# Altium footprint library QFN57P50_800X800X85L40X24T590RN.PcbLib: 1 footprints
Each footprint in its own frame and in the unit in brackets; x right, y up, seen from the top. Pads: shape width x height; smd on the part's side, far side on the other; paste and mask are expansions set on the pad; w line width, h text height; cw(c..) or ccw(c..) is an arc to the next point about the centre after c.
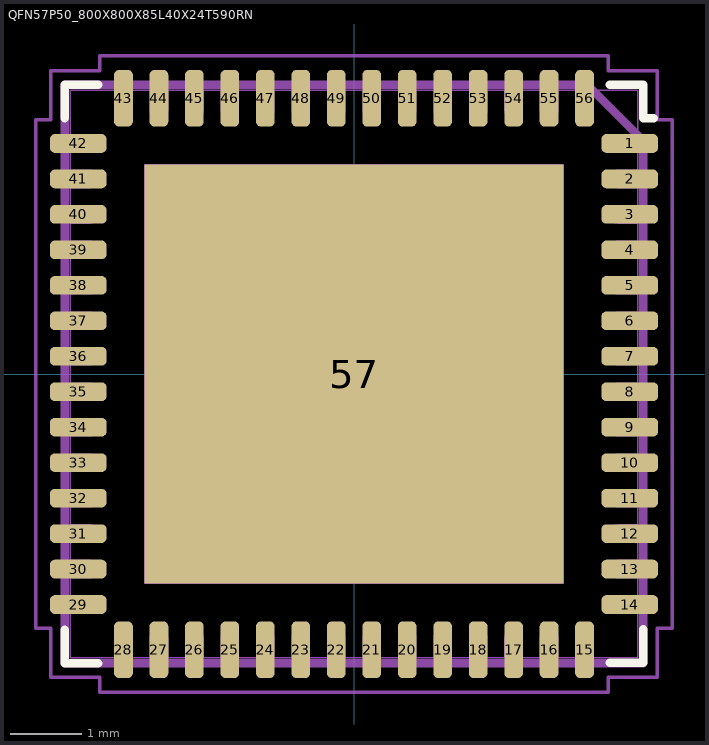
[diagram p0: the footprint, top view; thin cyan lines are the x and y axes]

## QFN57P50_800X800X85L40X24T590RN [mm] "Quad Flat No-Lead (QFN) with Thermal Tab, 0.50 mm pitch;  square, 14 pin X 14 pin, 8.00 mm L X 8.00 mm W X 1.00 mm H Body"
height 1
pads (57):
  rrect50% 0.796x0.264 smd: 1(3.887,3.25) 2(3.887,2.75) 3(3.887,2.25) 4(3.887,1.75) 5(3.887,1.25) 6(3.887,0.75) 7(3.887,0.25) 8(3.887,-0.25) 9(3.887,-0.75) 10(3.887,-1.25) 11(3.887,-1.75) 12(3.887,-2.25) 13(3.887,-2.75) 14(3.887,-3.25) 29(-3.887,-3.25) 30(-3.887,-2.75) 31(-3.887,-2.25) 32(-3.887,-1.75) 33(-3.887,-1.25) 34(-3.887,-0.75) 35(-3.887,-0.25) 36(-3.887,0.25) 37(-3.887,0.75) 38(-3.887,1.25) 39(-3.887,1.75) 40(-3.887,2.25) 41(-3.887,2.75) 42(-3.887,3.25)
  rrect50% 0.264x0.796 smd: 15(3.25,-3.887) 16(2.75,-3.887) 17(2.25,-3.887) 18(1.75,-3.887) 19(1.25,-3.887) 20(0.75,-3.887) 21(0.25,-3.887) 22(-0.25,-3.887) 23(-0.75,-3.887) 24(-1.25,-3.887) 25(-1.75,-3.887) 26(-2.25,-3.887) 27(-2.75,-3.887) 28(-3.25,-3.887) 43(-3.25,3.887) 44(-2.75,3.887) 45(-2.25,3.887) 46(-1.75,3.887) 47(-1.25,3.887) 48(-0.75,3.887) 49(-0.25,3.887) 50(0.25,3.887) 51(0.75,3.887) 52(1.25,3.887) 53(1.75,3.887) 54(2.25,3.887) 55(2.75,3.887) 56(3.25,3.887)
  rect 5.9x5.9 smd paste-5.9: 57(0,0)
Top Overlay:
  lines w0.12: -4.075,-3.602 -4.075,-4.075 -3.602,-4.075 ; -4.075,3.602 -4.075,4.075 -3.602,4.075 ; 3.602,-4.07 4.075,-4.07 4.075,-3.597 ; 3.602,4.075 4.075,4.075 4.075,3.602 4.225,3.602
Top Paste:
  region: -1.272,-1.272 -1.272,-2.662 -2.662,-2.662 -2.662,-1.272
  region: 0.696,-1.272 0.696,-2.662 -0.696,-2.662 -0.696,-1.272
  region: 2.662,-1.272 2.662,-2.662 1.272,-2.662 1.272,-1.272
  region: -1.272,0.696 -1.272,-0.696 -2.662,-0.696 -2.662,0.696
  region: 0.696,0.696 0.696,-0.696 -0.696,-0.696 -0.696,0.696
  region: 2.662,0.696 2.662,-0.696 1.272,-0.696 1.272,0.696
  region: -1.272,2.662 -1.272,1.272 -2.662,1.272 -2.662,2.662
  region: 0.696,2.662 0.696,1.272 -0.696,1.272 -0.696,2.662
  region: 2.662,2.662 2.662,1.272 1.272,1.272 1.272,2.662
Mechanical 3:
  lines w0.12: -4.075,-4.075 4.075,-4.075 4.075,3.291 3.291,4.075 -4.075,4.075 -4.075,-4.075
Mechanical 5:
  drawing of 232 lines, arcs and shapes, not listed
Mechanical 7:
  circle w0.05: c0,0 r0.25
  lines w0.05: -0.35,0 0.35,0 ; 0,-0.35 0,0.35 ; -4.485,-3.582 -4.485,3.582 -4.275,3.582 -4.275,4.275 -3.582,4.275 -3.582,4.485 3.582,4.485 3.582,4.275 4.275,4.275 4.275,3.582 4.485,3.582 4.485,-3.582 4.275,-3.582 4.275,-4.275 3.582,-4.275 3.582,-4.485 -3.582,-4.485 -3.582,-4.275 -4.275,-4.275 -4.275,-3.582 -4.485,-3.582
Mechanical 9 (Mech9):
  text "'.Designator'" at -5.817,-0.398 h1.02
3D body "QFN57P50_800X800X85L40X24T590R.STEP": height 1, standoff 0, extent -4.05,-4.05 4.05,4.05
3D body: height 1, standoff 0, extent -4.485,-4.485 4.485,4.485